# EAGLE library part FRDM-K22F (library Freedom)
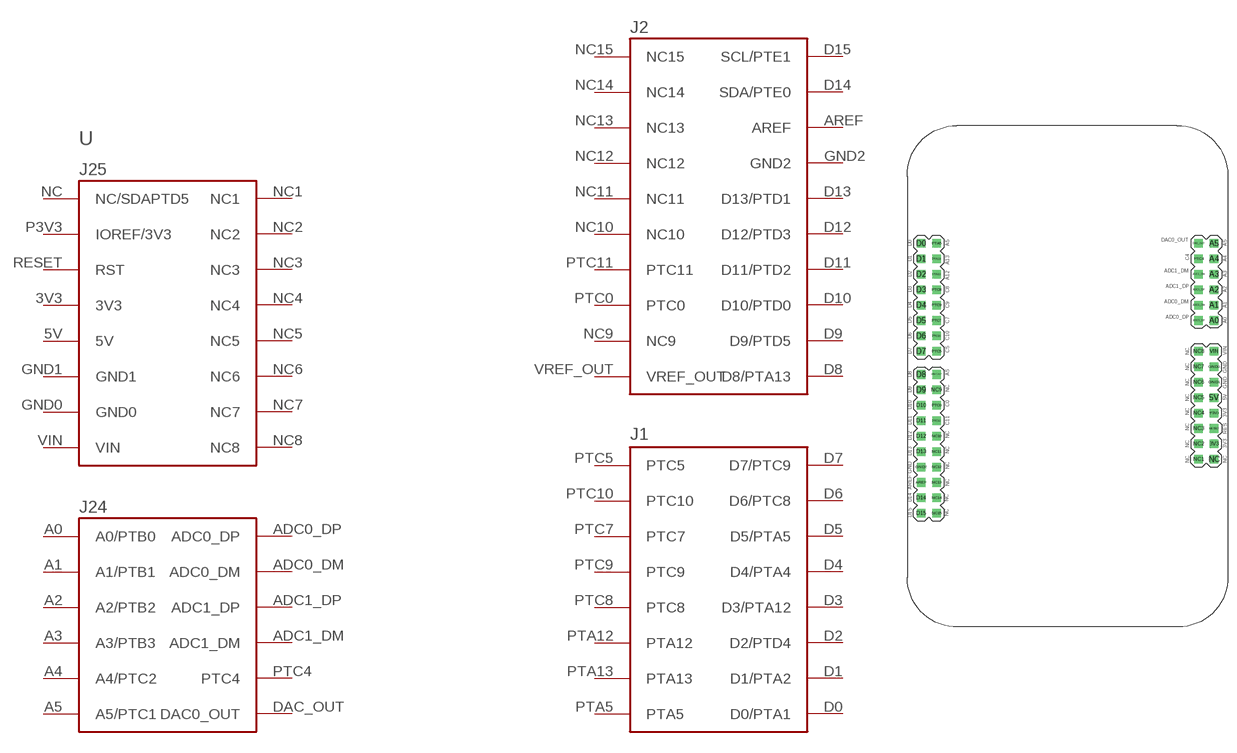
[diagram p1: symbol with the pads of FRDM_K22F; footprint FRDM_K22F]

Designator prefix -

## FRDM-K22F22F  [FRDM_K22F]
3V3  3V3
5V  5V
A0  A0/PTB0
A1  A1/PTB1
A2  A2/PTB2
A3  A3/PTB3
A4  A4/PTC2
A5  A5/PTC1
ADC0_DM  ADC0_DM
ADC0_DP  ADC0_DP
ADC1_DM  ADC1_DM
ADC1_DP  ADC1_DP
AREF  AREF
D0  D0/PTA1
D1  D1/PTA2
D2  D2/PTD4
D3  D3/PTA12
D4  D4/PTA4
D5  D5/PTA5
D6  D6/PTC8
D7  D7/PTC9
D8  D8/PTA13
D9  D9/PTD5
D10  D10/PTD0
D11  D11/PTD2
D12  D12/PTD3
D13  D13/PTD1
D14  SDA/PTE0
D15  SCL/PTE1
DAC_OUT  DAC0_OUT
GND0  GND0
GND1  GND1
GND2  GND2
NC  NC/SDAPTD5
NC1  NC1
NC2  NC2
NC3  NC3
NC4  NC4
NC5  NC5
NC6  NC6
NC7  NC7
NC8  NC8
NC9  NC9
NC10  NC10
NC11  NC11
NC12  NC12
NC13  NC13
NC14  NC14
NC15  NC15
P3V3  IOREF/3V3
PTA5  PTA5
PTA12  PTA12
PTA13  PTA13
PTC0  PTC0
PTC4  PTC4
PTC5  PTC5
PTC7  PTC7
PTC8  PTC8
PTC9  PTC9
PTC10  PTC10
PTC11  PTC11
RESET  RST
VIN  VIN
VREF_OUT  VREF_OUT

## Footprint FRDM_K22F (pad centres in mm)
drill 0.9 square: 3V3 24.13,-10.16; 5V 24.13,-2.54; A0 24.13,10.16; A1 24.13,12.7; A2 24.13,15.24; A3 24.13,17.78; A4 24.13,20.32; A5 24.13,22.86; ADC0_DM 21.59,12.7; ADC0_DP 21.59,10.16; ADC1_DM 21.59,17.78; ADC1_DP 21.59,15.24; AREF -24.13,-16.51; D0 -24.13,22.86; D1 -24.13,20.32; D2 -24.13,17.78; D3 -24.13,15.24; D4 -24.13,12.7; D5 -24.13,10.16; D6 -24.13,7.62; D7 -24.13,5.08; D8 -24.13,1.27; D9 -24.13,-1.27; D10 -24.13,-3.81; D11 -24.13,-6.35; D12 -24.13,-8.89; D13 -24.13,-11.43; D14 -24.13,-19.05; D15 -24.13,-21.59; DAC_OUT 21.59,22.86; GND0 24.13,2.54; GND1 24.13,0; GND2 -24.13,-13.97; NC 24.13,-12.7; NC1 21.59,-12.7; NC2 21.59,-10.16; NC3 21.59,-7.62; NC4 21.59,-5.08; NC5 21.59,-2.54; NC6 21.59,0; NC7 21.59,2.54; NC8 21.59,5.08; NC9 -21.59,-1.27; NC10 -21.59,-8.89; NC11 -21.59,-11.43; NC12 -21.59,-13.97; NC13 -21.59,-16.51; NC14 -21.59,-19.05; NC15 -21.59,-21.59; P3V3 24.13,-5.08; PTA5 -21.59,22.86; PTA12 -21.59,17.78; PTA13 -21.59,20.32; PTC0 -21.59,-3.81; PTC4 21.59,20.32; PTC5 -21.59,5.08; PTC7 -21.59,10.16; PTC8 -21.59,15.24; PTC9 -21.59,12.7; PTC10 -21.59,7.62; PTC11 -21.59,-6.35; RESET 24.13,-7.62; VIN 24.13,5.08; VREF_OUT -21.59,1.27